# EAGLE library part AT91SAM7S512/256/128/64/321 (library atmega-atxmega)
AT91SAM7S512/256/128/64/321 ARM7 Processor
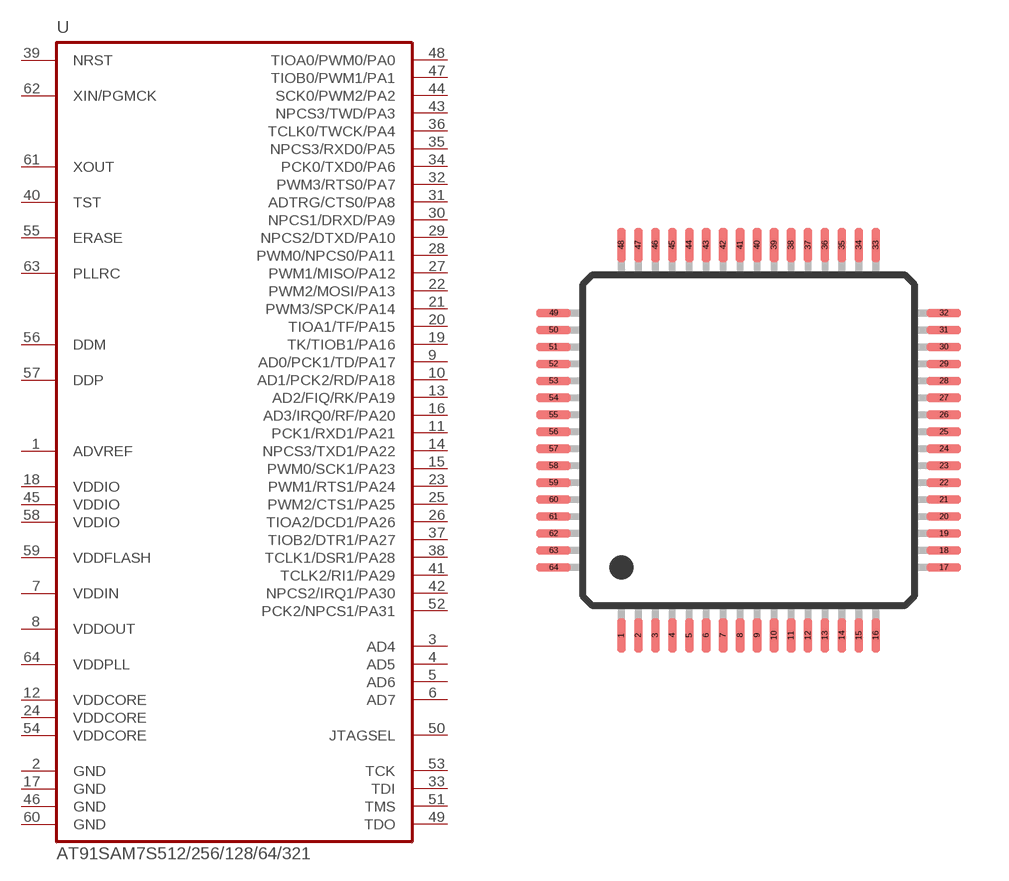
[diagram p151: symbol with the pads of LQFP64; footprint LQFP64]

Designator prefix U

## AT91SAM7S512/256/128/64/321-AU  [LQFP64]
1  ADVREF
2  GND  pwr
3  AD4
4  AD5
5  AD6
6  AD7
7  VDDIN  pwr
8  VDDOUT
9  AD0/PCK1/TD/PA17
10  AD1/PCK2/RD/PA18
11  PCK1/RXD1/PA21
12  VDDCORE
13  AD2/FIQ/RK/PA19
14  NPCS3/TXD1/PA22
15  PWM0/SCK1/PA23
16  AD3/IRQ0/RF/PA20
17  GND  pwr
18  VDDIO  pwr
19  TK/TIOB1/PA16
20  TIOA1/TF/PA15
21  PWM3/SPCK/PA14
22  PWM2/MOSI/PA13
23  PWM1/RTS1/PA24
24  VDDCORE
25  PWM2/CTS1/PA25
26  TIOA2/DCD1/PA26
27  PWM1/MISO/PA12
28  PWM0/NPCS0/PA11
29  NPCS2/DTXD/PA10
30  NPCS1/DRXD/PA9
31  ADTRG/CTS0/PA8
32  PWM3/RTS0/PA7
33  TDI
34  PCK0/TXD0/PA6
35  NPCS3/RXD0/PA5
36  TCLK0/TWCK/PA4
37  TIOB2/DTR1/PA27
38  TCLK1/DSR1/PA28
39  NRST
40  TST
41  TCLK2/RI1/PA29
42  NPCS2/IRQ1/PA30
43  NPCS3/TWD/PA3
44  SCK0/PWM2/PA2
45  VDDIO  pwr
46  GND  pwr
47  TIOB0/PWM1/PA1
48  TIOA0/PWM0/PA0
49  TDO
50  JTAGSEL
51  TMS
52  PCK2/NPCS1/PA31
53  TCK
54  VDDCORE
55  ERASE
56  DDM
57  DDP
58  VDDIO  pwr
59  VDDFLASH  pwr
60  GND  pwr
61  XOUT
62  XIN/PGMCK
63  PLLRC
64  VDDPLL

## Footprint LQFP64 (pad centres in mm)
LQFP64
smd 0.25 x 1: 1 -3.75,-5.75; 2 -3.25,-5.75; 3 -2.75,-5.75; 4 -2.25,-5.75; 5 -1.75,-5.75; 6 -1.25,-5.75; 7 -0.75,-5.75; 8 -0.25,-5.75; 9 0.25,-5.75; 10 0.75,-5.75; 11 1.25,-5.75; 12 1.75,-5.75; 13 2.25,-5.75; 14 2.75,-5.75; 15 3.25,-5.75; 16 3.75,-5.75; 33 3.75,5.75; 34 3.25,5.75; 35 2.75,5.75; 36 2.25,5.75; 37 1.75,5.75; 38 1.25,5.75; 39 0.75,5.75; 40 0.25,5.75; 41 -0.25,5.75; 42 -0.75,5.75; 43 -1.25,5.75; 44 -1.75,5.75; 45 -2.25,5.75; 46 -2.75,5.75; 47 -3.25,5.75; 48 -3.75,5.75
smd 1 x 0.25: 17 5.75,-3.75; 18 5.75,-3.25; 19 5.75,-2.75; 20 5.75,-2.25; 21 5.75,-1.75; 22 5.75,-1.25; 23 5.75,-0.75; 24 5.75,-0.25; 25 5.75,0.25; 26 5.75,0.75; 27 5.75,1.25; 28 5.75,1.75; 29 5.75,2.25; 30 5.75,2.75; 31 5.75,3.25; 32 5.75,3.75; 49 -5.75,3.75; 50 -5.75,3.25; 51 -5.75,2.75; 52 -5.75,2.25; 53 -5.75,1.75; 54 -5.75,1.25; 55 -5.75,0.75; 56 -5.75,0.25; 57 -5.75,-0.25; 58 -5.75,-0.75; 59 -5.75,-1.25; 60 -5.75,-1.75; 61 -5.75,-2.25; 62 -5.75,-2.75; 63 -5.75,-3.25; 64 -5.75,-3.75